# Altium footprint library Switche.PcbLib: 2 footprints
Each footprint in its own frame and in the unit in brackets; x right, y up, seen from the top. Pads: shape width x height; smd on the part's side, far side on the other; paste and mask are expansions set on the pad; w line width, h text height; cw(c..) or ccw(c..) is an arc to the next point about the centre after c.
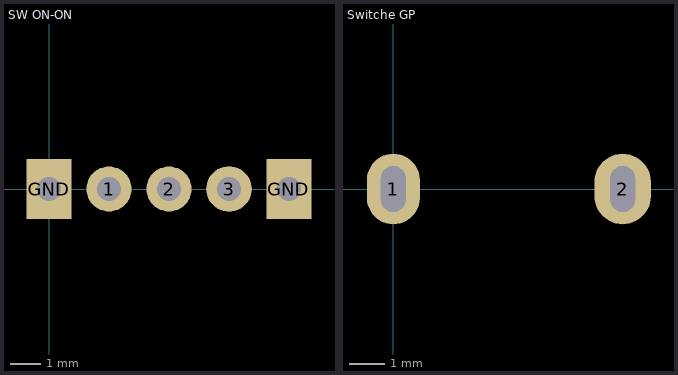
[diagram p0: the footprints below, top view; thin cyan lines are the x and y axes]

## SW ON-ON [mm]
pads (5):
  round 1.5 hole 0.8: 1(2,0) 2(4,0)
  round 1.524 hole 0.8: 3(6,0)
  rect 1.5x2 hole 0.8 square: GND(0,0) GND(8,0)

## Switche GP [mm]
pads (2):
  oval 1.5x2 hole 0.7 slot 1.3 at 90 deg: 1(0,0)
  oval 1.6x2 hole 0.7 slot 1.3 at 90 deg: 2(6.5,0)